# Altium schematic symbol library Schlib1.SchLib: 1 symbol
Pins are listed as number, name and electrical type; pins without a type are passive.

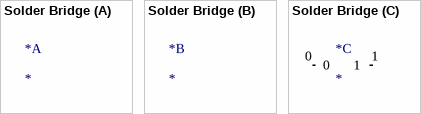
[diagram p0: symbol Solder Bridge]

## Solder Bridge
designator *
part C pins: 0, 1